# Altium footprint library E52-XXXNW30S-PcbLib.PcbLib: 1 footprints
Each footprint in its own frame and in the unit in brackets; x right, y up, seen from the top. Pads: shape width x height; smd on the part's side, far side on the other; paste and mask are expansions set on the pad; w line width, h text height; cw(c..) or ccw(c..) is an arc to the next point about the centre after c.
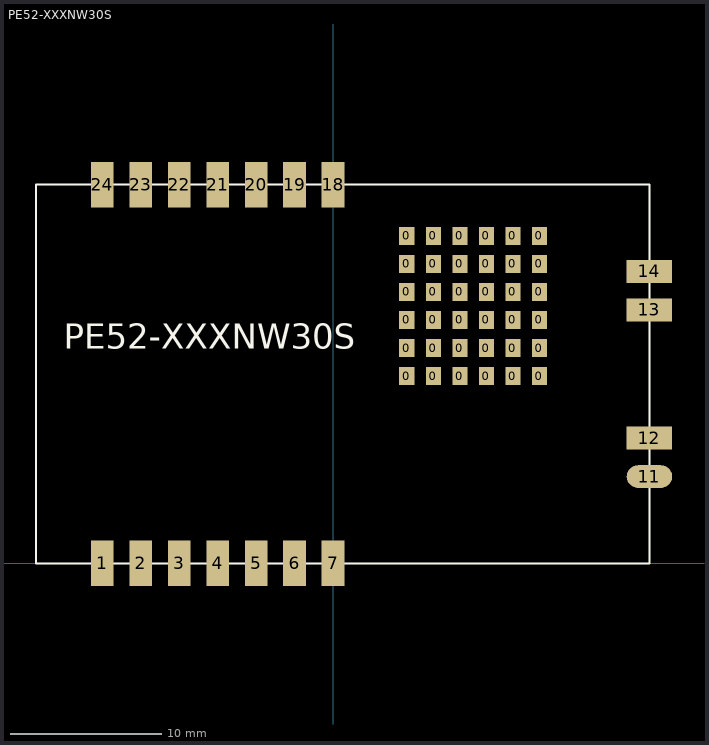
[diagram p0: the footprint, top view; thin cyan lines are the x and y axes]

## PE52-XXXNW30S [mm] "40.5mm*25mm*3.80mm-S"
pads (54):
  rect 1x1.2 smd mask+0: 0(4.866,12.365) 0(4.866,14.215) 0(4.866,16.065) 0(4.866,17.915) 0(4.866,19.765) 0(4.866,21.615) 0(6.616,12.365) 0(6.616,14.215) 0(6.616,16.065) 0(6.616,17.915) 0(6.616,19.765) 0(6.616,21.615) 0(8.366,12.365) 0(8.366,14.215) 0(8.366,16.065) 0(8.366,17.915) 0(8.366,19.765) 0(8.366,21.615) 0(10.116,12.365) 0(10.116,14.215) 0(10.116,16.065) 0(10.116,17.915) 0(10.116,19.765) 0(10.116,21.615) 0(11.866,12.365) 0(11.866,14.215) 0(11.866,16.065) 0(11.866,17.915) 0(11.866,19.765) 0(11.866,21.615) 0(13.616,12.365) 0(13.616,14.215) 0(13.616,16.065) 0(13.616,17.915) 0(13.616,19.765) 0(13.616,21.615)
  rect 1.5x3 smd: 1(-15.24,0) 2(-12.7,0) 3(-10.16,0) 4(-7.62,0) 5(-5.08,0) 6(-2.54,0) 7(0,0) 18(0,25) 19(-2.54,25) 20(-5.08,25) 21(-7.62,25) 22(-10.16,25) 23(-12.7,25) 24(-15.24,25)
  oval 3x1.5 smd: 11(20.88,5.73)
  rect 3x1.5 smd: 12(20.88,8.27) 13(20.88,16.73) 14(20.88,19.27)
Top Overlay:
  lines w0.127: -19.62,0 -19.62,25 20.88,25 20.88,0 -19.62,0
  text "PE52-XXXNW30S" at -17.78,13.589 h2.8